# Altium integrated library BB Converter Analog to Digital.IntLib: 242 symbols (part 1 of 6)
Pins are listed as number, name and electrical type; pins without a type are passive.

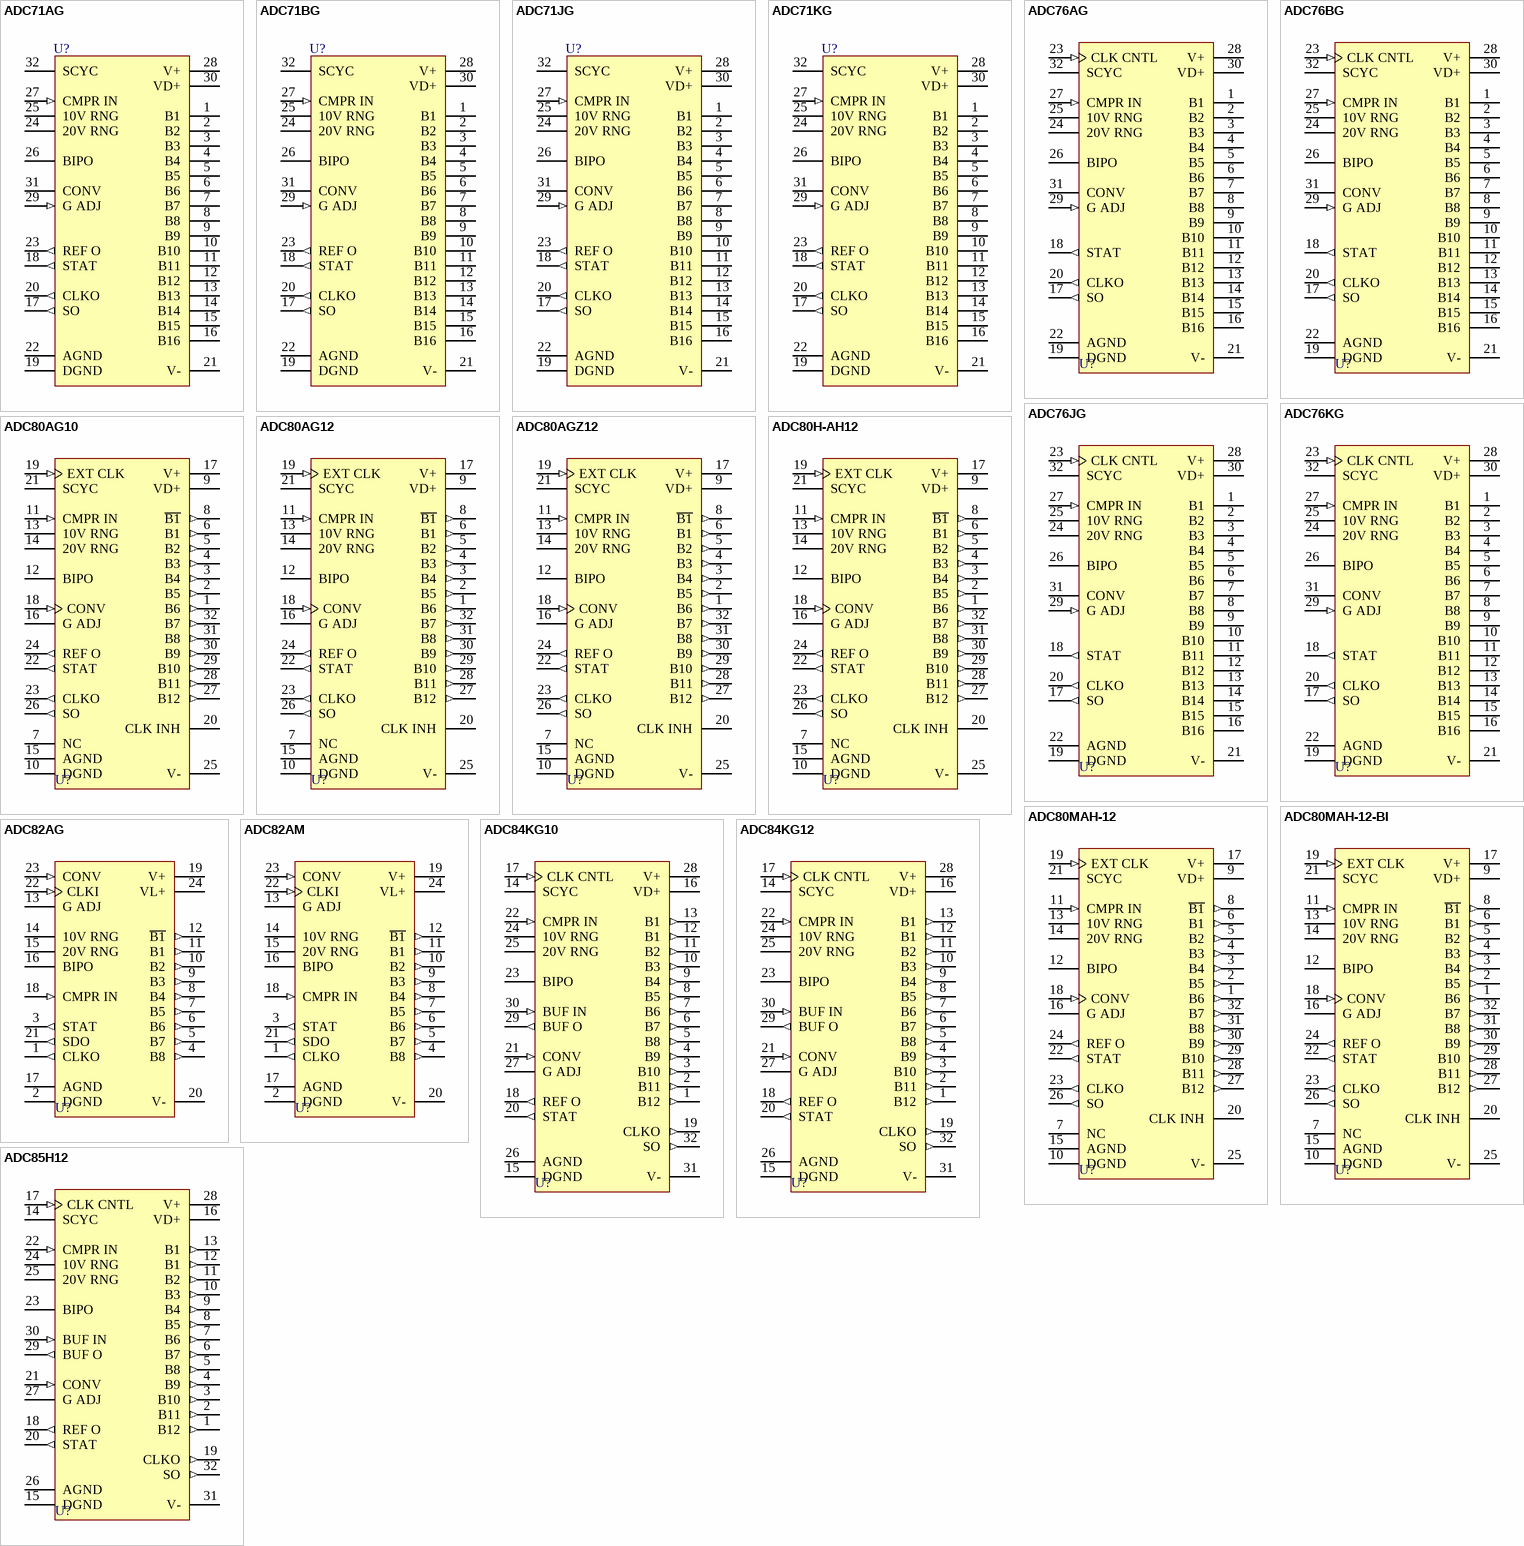
[diagram p0: symbols ADC71AG to ADC85H12]

## ADC71AG
designator U?
16-Bit Analog-to-Digital Converter; Note: Pin 22 is connected to metal lid of package; Published: 8-Jun-2000; LatestRevisionDate: 06-Jun-2005; LatestRevisionNote: Stylized 3D Model Added.; DatasheetVersion: 1996~1997; PackageVersion: 1994; PackageReference: 172-5; Publisher: Altium Limited; PackageDescription: DIP; 32 Leads; Row Spacing 22.86 mm; Pitch 2.54 mm; ComponentLink1Description: Manufacturer Link; ComponentLink1URL: http://www.ti.com/
footprint 172-5 (DIP; 32 Leads; Row Spacing 22.86 mm; Pitch 2.54 mm)
3D model 212 (DIP; 32 Leads; Row Spacing 22.86 mm; Pitch 2.54 mm)
pins: 1 B1 (hiz), 2 B2 (hiz), 3 B3 (hiz), 4 B4 (hiz), 5 B5 (hiz), 6 B6 (hiz), 7 B7 (hiz), 8 B8 (hiz), 9 B9 (hiz), 10 B10 (hiz), 11 B11 (hiz), 12 B12 (hiz), 13 B13 (hiz), 14 B14 (hiz), 15 B15 (hiz), 16 B16 (hiz), 17 SO (out), 18 STAT (out), 19 DGND (power), 20 CLKO (out), 21 V- (power), 22 AGND (power), 23 REF O (out), 24 20V RNG, 25 10V RNG, 26 BIPO, 27 CMPR IN (in), 28 V+ (power), 29 G ADJ (in), 30 VD+ (power), 31 CONV, 32 SCYC

## ADC71BG
designator U?
16-Bit Analog-to-Digital Converter; Note: Pin 22 is connected to metal lid of package; Published: 8-Jun-2000; LatestRevisionDate: 06-Jun-2005; LatestRevisionNote: Stylized 3D Model Added.; DatasheetVersion: 1996~1997; PackageVersion: 1994; PackageReference: 172-5; Publisher: Altium Limited; PackageDescription: DIP; 32 Leads; Row Spacing 22.86 mm; Pitch 2.54 mm; ComponentLink1Description: Manufacturer Link; ComponentLink1URL: http://www.ti.com/
footprint 172-5 (DIP; 32 Leads; Row Spacing 22.86 mm; Pitch 2.54 mm)
3D model 212 (DIP; 32 Leads; Row Spacing 22.86 mm; Pitch 2.54 mm)
pins: 1 B1 (hiz), 2 B2 (hiz), 3 B3 (hiz), 4 B4 (hiz), 5 B5 (hiz), 6 B6 (hiz), 7 B7 (hiz), 8 B8 (hiz), 9 B9 (hiz), 10 B10 (hiz), 11 B11 (hiz), 12 B12 (hiz), 13 B13 (hiz), 14 B14 (hiz), 15 B15 (hiz), 16 B16 (hiz), 17 SO (out), 18 STAT (out), 19 DGND (power), 20 CLKO (out), 21 V- (power), 22 AGND (power), 23 REF O (out), 24 20V RNG, 25 10V RNG, 26 BIPO, 27 CMPR IN (in), 28 V+ (power), 29 G ADJ (in), 30 VD+ (power), 31 CONV, 32 SCYC

## ADC71JG
designator U?
16-Bit Analog-to-Digital Converter; Note: Pin 22 is connected to metal lid of package; Published: 8-Jun-2000; LatestRevisionDate: 06-Jun-2005; LatestRevisionNote: Stylized 3D Model Added.; DatasheetVersion: 1996~1997; PackageVersion: 1994; PackageReference: 172-5; Publisher: Altium Limited; PackageDescription: DIP; 32 Leads; Row Spacing 22.86 mm; Pitch 2.54 mm; ComponentLink1Description: Manufacturer Link; ComponentLink1URL: http://www.ti.com/
footprint 172-5 (DIP; 32 Leads; Row Spacing 22.86 mm; Pitch 2.54 mm)
3D model 212 (DIP; 32 Leads; Row Spacing 22.86 mm; Pitch 2.54 mm)
pins: 1 B1 (hiz), 2 B2 (hiz), 3 B3 (hiz), 4 B4 (hiz), 5 B5 (hiz), 6 B6 (hiz), 7 B7 (hiz), 8 B8 (hiz), 9 B9 (hiz), 10 B10 (hiz), 11 B11 (hiz), 12 B12 (hiz), 13 B13 (hiz), 14 B14 (hiz), 15 B15 (hiz), 16 B16 (hiz), 17 SO (out), 18 STAT (out), 19 DGND (power), 20 CLKO (out), 21 V- (power), 22 AGND (power), 23 REF O (out), 24 20V RNG, 25 10V RNG, 26 BIPO, 27 CMPR IN (in), 28 V+ (power), 29 G ADJ (in), 30 VD+ (power), 31 CONV, 32 SCYC

## ADC71KG
designator U?
16-Bit Analog-to-Digital Converter; Note: Pin 22 is connected to metal lid of package; Published: 8-Jun-2000; LatestRevisionDate: 06-Jun-2005; LatestRevisionNote: Stylized 3D Model Added.; DatasheetVersion: 1996~1997; PackageVersion: 1994; PackageReference: 172-5; Publisher: Altium Limited; PackageDescription: DIP; 32 Leads; Row Spacing 22.86 mm; Pitch 2.54 mm; ComponentLink1Description: Manufacturer Link; ComponentLink1URL: http://www.ti.com/
footprint 172-5 (DIP; 32 Leads; Row Spacing 22.86 mm; Pitch 2.54 mm)
3D model 212 (DIP; 32 Leads; Row Spacing 22.86 mm; Pitch 2.54 mm)
pins: 1 B1 (hiz), 2 B2 (hiz), 3 B3 (hiz), 4 B4 (hiz), 5 B5 (hiz), 6 B6 (hiz), 7 B7 (hiz), 8 B8 (hiz), 9 B9 (hiz), 10 B10 (hiz), 11 B11 (hiz), 12 B12 (hiz), 13 B13 (hiz), 14 B14 (hiz), 15 B15 (hiz), 16 B16 (hiz), 17 SO (out), 18 STAT (out), 19 DGND (power), 20 CLKO (out), 21 V- (power), 22 AGND (power), 23 REF O (out), 24 20V RNG, 25 10V RNG, 26 BIPO, 27 CMPR IN (in), 28 V+ (power), 29 G ADJ (in), 30 VD+ (power), 31 CONV, 32 SCYC

## ADC76AG
designator U?
16-Bit Analog-to-Digital Converter; Published: 8-Jun-2000; LatestRevisionDate: 06-Jun-2005; LatestRevisionNote: Stylized 3D Model Added.; DatasheetVersion: 1996~1997; PackageVersion: 1994; PackageReference: 172-5; Publisher: Altium Limited; PackageDescription: DIP; 32 Leads; Row Spacing 22.86 mm; Pitch 2.54 mm; ComponentLink1Description: Manufacturer Link; ComponentLink1URL: http://www.ti.com/
footprint 172-5 (DIP; 32 Leads; Row Spacing 22.86 mm; Pitch 2.54 mm)
3D model 212 (DIP; 32 Leads; Row Spacing 22.86 mm; Pitch 2.54 mm)
pins: 1 B1 (hiz), 2 B2 (hiz), 3 B3 (hiz), 4 B4 (hiz), 5 B5 (hiz), 6 B6 (hiz), 7 B7 (hiz), 8 B8 (hiz), 9 B9 (hiz), 10 B10 (hiz), 11 B11 (hiz), 12 B12 (hiz), 13 B13 (hiz), 14 B14 (hiz), 15 B15 (hiz), 16 B16 (hiz), 17 SO (out), 18 STAT (out), 19 DGND (power), 20 CLKO (out), 21 V- (power), 22 AGND (power), 23 CLK CNTL (in), 24 20V RNG, 25 10V RNG, 26 BIPO, 27 CMPR IN (in), 28 V+ (power), 29 G ADJ (in), 30 VD+ (power), 31 CONV, 32 SCYC

## ADC76BG
designator U?
16-Bit Analog-to-Digital Converter; Published: 8-Jun-2000; LatestRevisionDate: 06-Jun-2005; LatestRevisionNote: Stylized 3D Model Added.; DatasheetVersion: 1996~1997; PackageVersion: 1994; PackageReference: 172-5; Publisher: Altium Limited; PackageDescription: DIP; 32 Leads; Row Spacing 22.86 mm; Pitch 2.54 mm; ComponentLink1Description: Manufacturer Link; ComponentLink1URL: http://www.ti.com/
footprint 172-5 (DIP; 32 Leads; Row Spacing 22.86 mm; Pitch 2.54 mm)
3D model 212 (DIP; 32 Leads; Row Spacing 22.86 mm; Pitch 2.54 mm)
pins: 1 B1 (hiz), 2 B2 (hiz), 3 B3 (hiz), 4 B4 (hiz), 5 B5 (hiz), 6 B6 (hiz), 7 B7 (hiz), 8 B8 (hiz), 9 B9 (hiz), 10 B10 (hiz), 11 B11 (hiz), 12 B12 (hiz), 13 B13 (hiz), 14 B14 (hiz), 15 B15 (hiz), 16 B16 (hiz), 17 SO (out), 18 STAT (out), 19 DGND (power), 20 CLKO (out), 21 V- (power), 22 AGND (power), 23 CLK CNTL (in), 24 20V RNG, 25 10V RNG, 26 BIPO, 27 CMPR IN (in), 28 V+ (power), 29 G ADJ (in), 30 VD+ (power), 31 CONV, 32 SCYC

## ADC76JG
designator U?
16-Bit Analog-to-Digital Converter; Published: 8-Jun-2000; LatestRevisionDate: 06-Jun-2005; LatestRevisionNote: Stylized 3D Model Added.; DatasheetVersion: 1996~1997; PackageVersion: 1994; PackageReference: 172-5; Publisher: Altium Limited; PackageDescription: DIP; 32 Leads; Row Spacing 22.86 mm; Pitch 2.54 mm; ComponentLink1Description: Manufacturer Link; ComponentLink1URL: http://www.ti.com/
footprint 172-5 (DIP; 32 Leads; Row Spacing 22.86 mm; Pitch 2.54 mm)
3D model 212 (DIP; 32 Leads; Row Spacing 22.86 mm; Pitch 2.54 mm)
pins: 1 B1 (hiz), 2 B2 (hiz), 3 B3 (hiz), 4 B4 (hiz), 5 B5 (hiz), 6 B6 (hiz), 7 B7 (hiz), 8 B8 (hiz), 9 B9 (hiz), 10 B10 (hiz), 11 B11 (hiz), 12 B12 (hiz), 13 B13 (hiz), 14 B14 (hiz), 15 B15 (hiz), 16 B16 (hiz), 17 SO (out), 18 STAT (out), 19 DGND (power), 20 CLKO (out), 21 V- (power), 22 AGND (power), 23 CLK CNTL (in), 24 20V RNG, 25 10V RNG, 26 BIPO, 27 CMPR IN (in), 28 V+ (power), 29 G ADJ (in), 30 VD+ (power), 31 CONV, 32 SCYC

## ADC76KG
designator U?
16-Bit Analog-to-Digital Converter; Published: 8-Jun-2000; LatestRevisionDate: 06-Jun-2005; LatestRevisionNote: Stylized 3D Model Added.; DatasheetVersion: 1996~1997; PackageVersion: 1994; PackageReference: 172-5; Publisher: Altium Limited; PackageDescription: DIP; 32 Leads; Row Spacing 22.86 mm; Pitch 2.54 mm; ComponentLink1Description: Manufacturer Link; ComponentLink1URL: http://www.ti.com/
footprint 172-5 (DIP; 32 Leads; Row Spacing 22.86 mm; Pitch 2.54 mm)
3D model 212 (DIP; 32 Leads; Row Spacing 22.86 mm; Pitch 2.54 mm)
pins: 1 B1 (hiz), 2 B2 (hiz), 3 B3 (hiz), 4 B4 (hiz), 5 B5 (hiz), 6 B6 (hiz), 7 B7 (hiz), 8 B8 (hiz), 9 B9 (hiz), 10 B10 (hiz), 11 B11 (hiz), 12 B12 (hiz), 13 B13 (hiz), 14 B14 (hiz), 15 B15 (hiz), 16 B16 (hiz), 17 SO (out), 18 STAT (out), 19 DGND (power), 20 CLKO (out), 21 V- (power), 22 AGND (power), 23 CLK CNTL (in), 24 20V RNG, 25 10V RNG, 26 BIPO, 27 CMPR IN (in), 28 V+ (power), 29 G ADJ (in), 30 VD+ (power), 31 CONV, 32 SCYC

## ADC80AG10
designator U?
General Purpose Analog-to-Digital Converter; Note: Pin 7 is No internal Connection (NC) pins.; ComponentAvailability: Obsolete; Published: 8-Jun-2000; LatestRevisionDate: 06-Jun-2005; LatestRevisionNote: Stylized 3D Model Added.; DatasheetVersion: 1989; PackageVersion: 1994; PackageReference: 172-2; Publisher: Altium Limited; PackageDescription: DIP; 32 Leads; Row Spacing 22.86 mm; Pitch 2.54 mm; ComponentLink1Description: Manufacturer Link; ComponentLink1URL: http://www.ti.com/; ComponentLink2Description: Datasheet; ComponentLink2URL: http://www-s.ti.com/sc/ds/adc0804.pdf
footprint 172-2 (DIP; 32 Leads; Row Spacing 22.86 mm; Pitch 2.54 mm)
3D model 212 (DIP; 32 Leads; Row Spacing 22.86 mm; Pitch 2.54 mm)
pins: 1 B6 (out), 2 B5 (out), 3 B4 (out), 4 B3 (out), 5 B2 (out), 6 B1 (out), 7 NC, 8 ~{B1} (out), 9 VD+ (power), 10 DGND (power), 11 CMPR IN (in), 12 BIPO, 13 10V RNG, 14 20V RNG, 15 AGND (power), 16 G ADJ, 17 V+ (power), 18 CONV (in), 19 EXT CLK (in), 20 CLK INH, 21 SCYC, 22 STAT (out), 23 CLKO (out), 24 REF O (out), 25 V- (power), 26 SO (out), 27 B12 (out), 28 B11 (out), 29 B10 (out), 30 B9 (out), 31 B8 (out), 32 B7 (out)

## ADC80AG12
designator U?
General Purpose Analog-to-Digital Converter; Note: Pin 7 is No internal Connection (NC) pins.; ComponentAvailability: Obsolete; Published: 8-Jun-2000; LatestRevisionDate: 06-Jun-2005; LatestRevisionNote: Stylized 3D Model Added.; DatasheetVersion: 1989; PackageVersion: 1994; PackageReference: 172-2; Publisher: Altium Limited; PackageDescription: DIP; 32 Leads; Row Spacing 22.86 mm; Pitch 2.54 mm; ComponentLink1Description: Manufacturer Link; ComponentLink1URL: http://www.ti.com/; ComponentLink2Description: Datasheet; ComponentLink2URL: http://www-s.ti.com/sc/ds/adc0804.pdf
footprint 172-2 (DIP; 32 Leads; Row Spacing 22.86 mm; Pitch 2.54 mm)
3D model 212 (DIP; 32 Leads; Row Spacing 22.86 mm; Pitch 2.54 mm)
pins: 1 B6 (out), 2 B5 (out), 3 B4 (out), 4 B3 (out), 5 B2 (out), 6 B1 (out), 7 NC, 8 ~{B1} (out), 9 VD+ (power), 10 DGND (power), 11 CMPR IN (in), 12 BIPO, 13 10V RNG, 14 20V RNG, 15 AGND (power), 16 G ADJ, 17 V+ (power), 18 CONV (in), 19 EXT CLK (in), 20 CLK INH, 21 SCYC, 22 STAT (out), 23 CLKO (out), 24 REF O (out), 25 V- (power), 26 SO (out), 27 B12 (out), 28 B11 (out), 29 B10 (out), 30 B9 (out), 31 B8 (out), 32 B7 (out)

## ADC80AGZ12
designator U?
General Purpose Analog-to-Digital Converter; Note: Pin 7 is No internal Connection (NC) pins.; ComponentAvailability: Obsolete; Published: 8-Jun-2000; LatestRevisionDate: 06-Jun-2005; LatestRevisionNote: Stylized 3D Model Added.; DatasheetVersion: 1989; PackageVersion: 1994; PackageReference: 172-2; Publisher: Altium Limited; PackageDescription: DIP; 32 Leads; Row Spacing 22.86 mm; Pitch 2.54 mm; ComponentLink1Description: Manufacturer Link; ComponentLink1URL: http://www.ti.com/; ComponentLink2Description: Datasheet; ComponentLink2URL: http://www-s.ti.com/sc/ds/adc0804.pdf
footprint 172-2 (DIP; 32 Leads; Row Spacing 22.86 mm; Pitch 2.54 mm)
3D model 212 (DIP; 32 Leads; Row Spacing 22.86 mm; Pitch 2.54 mm)
pins: 1 B6 (out), 2 B5 (out), 3 B4 (out), 4 B3 (out), 5 B2 (out), 6 B1 (out), 7 NC, 8 ~{B1} (out), 9 VD+ (power), 10 DGND (power), 11 CMPR IN (in), 12 BIPO, 13 10V RNG, 14 20V RNG, 15 AGND (power), 16 G ADJ, 17 V+ (power), 18 CONV (in), 19 EXT CLK (in), 20 CLK INH, 21 SCYC, 22 STAT (out), 23 CLKO (out), 24 REF O (out), 25 V- (power), 26 SO (out), 27 B12 (out), 28 B11 (out), 29 B10 (out), 30 B9 (out), 31 B8 (out), 32 B7 (out)

## ADC80H-AH12
designator U?
General Purpose Analog-to-Digital Converter; Note: Pin 7 is No internal Connection (NC) pins.; ComponentAvailability: Obsolete; Published: 8-Jun-2000; LatestRevisionDate: 06-Jun-2005; LatestRevisionNote: Stylized 3D Model Added.; DatasheetVersion: 1989; PackageVersion: 1994; PackageReference: 172-2; Publisher: Altium Limited; PackageDescription: DIP; 32 Leads; Row Spacing 22.86 mm; Pitch 2.54 mm; ComponentLink1Description: Manufacturer Link; ComponentLink1URL: http://www.ti.com/; ComponentLink2Description: Datasheet; ComponentLink2URL: http://www-s.ti.com/sc/ds/adc0804.pdf
footprint 172-2 (DIP; 32 Leads; Row Spacing 22.86 mm; Pitch 2.54 mm)
3D model 212 (DIP; 32 Leads; Row Spacing 22.86 mm; Pitch 2.54 mm)
pins: 1 B6 (out), 2 B5 (out), 3 B4 (out), 4 B3 (out), 5 B2 (out), 6 B1 (out), 7 NC, 8 ~{B1} (out), 9 VD+ (power), 10 DGND (power), 11 CMPR IN (in), 12 BIPO, 13 10V RNG, 14 20V RNG, 15 AGND (power), 16 G ADJ, 17 V+ (power), 18 CONV (in), 19 EXT CLK (in), 20 CLK INH, 21 SCYC, 22 STAT (out), 23 CLKO (out), 24 REF O (out), 25 V- (power), 26 SO (out), 27 B12 (out), 28 B11 (out), 29 B10 (out), 30 B9 (out), 31 B8 (out), 32 B7 (out)

## ADC80MAH-12
designator U?
Monolithic 12-Bit Analog-to-Digital Converter; Note: Pin 7 is No internal Connection (NC) pins.; ComponentAvailability: Obsolete; Published: 8-Jun-2000; LatestRevisionDate: 06-Jun-2005; LatestRevisionNote: Stylized 3D Model Added.; DatasheetVersion: 1989; PackageVersion: 1994; PackageReference: 212; Publisher: Altium Limited; PackageDescription: DIP; 32 Leads; Row Spacing 22.86 mm; Pitch 2.54 mm; ComponentLink1Description: Manufacturer Link; ComponentLink1URL: http://www.ti.com/; ComponentLink2Description: Datasheet; ComponentLink2URL: http://www-s.ti.com/sc/ds/adc0804.pdf
footprint 212 (DIP; 32 Leads; Row Spacing 22.86 mm; Pitch 2.54 mm)
3D model 212 (DIP; 32 Leads; Row Spacing 22.86 mm; Pitch 2.54 mm)
pins: 1 B6 (out), 2 B5 (out), 3 B4 (out), 4 B3 (out), 5 B2 (out), 6 B1 (out), 7 NC, 8 ~{B1} (out), 9 VD+ (power), 10 DGND (power), 11 CMPR IN (in), 12 BIPO, 13 10V RNG, 14 20V RNG, 15 AGND (power), 16 G ADJ, 17 V+ (power), 18 CONV (in), 19 EXT CLK (in), 20 CLK INH, 21 SCYC, 22 STAT (out), 23 CLKO (out), 24 REF O (out), 25 V- (power), 26 SO (out), 27 B12 (out), 28 B11 (out), 29 B10 (out), 30 B9 (out), 31 B8 (out), 32 B7 (out)

## ADC80MAH-12-BI
designator U?
Monolithic 12-Bit Analog-to-Digital Converter; Note: Pin 7 is No internal Connection (NC) pins.; ComponentAvailability: Obsolete; Published: 8-Jun-2000; LatestRevisionDate: 06-Jun-2005; LatestRevisionNote: Stylized 3D Model Added.; DatasheetVersion: 1989; PackageVersion: 1994; PackageReference: 212; Publisher: Altium Limited; PackageDescription: DIP; 32 Leads; Row Spacing 22.86 mm; Pitch 2.54 mm; ComponentLink1Description: Manufacturer Link; ComponentLink1URL: http://www.ti.com/; ComponentLink2Description: Datasheet; ComponentLink2URL: http://www-s.ti.com/sc/ds/adc0804.pdf
footprint 212 (DIP; 32 Leads; Row Spacing 22.86 mm; Pitch 2.54 mm)
3D model 212 (DIP; 32 Leads; Row Spacing 22.86 mm; Pitch 2.54 mm)
pins: 1 B6 (out), 2 B5 (out), 3 B4 (out), 4 B3 (out), 5 B2 (out), 6 B1 (out), 7 NC, 8 ~{B1} (out), 9 VD+ (power), 10 DGND (power), 11 CMPR IN (in), 12 BIPO, 13 10V RNG, 14 20V RNG, 15 AGND (power), 16 G ADJ, 17 V+ (power), 18 CONV (in), 19 EXT CLK (in), 20 CLK INH, 21 SCYC, 22 STAT (out), 23 CLKO (out), 24 REF O (out), 25 V- (power), 26 SO (out), 27 B12 (out), 28 B11 (out), 29 B10 (out), 30 B9 (out), 31 B8 (out), 32 B7 (out)

## ADC82AG
designator U?
IC Analog-to-Digital Converter; Published: 8-Jun-2000; LatestRevisionDate: 17-Jul-2002; LatestRevisionNote: Re-released for DXP Platform.; DatasheetVersion: Oct-1985; PackageVersion: revA; PackageReference: ZZ075; Publisher: Altium Limited; PackageDescription: DIP; 24 Round Pins; Row Space 15.24 mm; Pitch 2.54 mm; ComponentLink1Description: Manufacturer Link; ComponentLink1URL: http://www.ti.com/
footprint ZZ075 (DIP; 24 Round Pins; Row Space 15.24 mm; Pitch 2.54 mm)
pins: 1 CLKO (out), 2 DGND (power), 3 STAT (out), 4 B8 (out), 5 B7 (out), 6 B6 (out), 7 B5 (out), 8 B4 (out), 9 B3 (out), 10 B2 (out), 11 B1 (out), 12 ~{B1} (out), 13 G ADJ, 14 10V RNG, 15 20V RNG, 16 BIPO, 17 AGND (power), 18 CMPR IN (in), 19 V+ (power), 20 V- (power), 21 SDO (out), 22 CLKI (in), 23 CONV (in), 24 VL+ (power)

## ADC82AM
designator U?
IC Analog-to-Digital Converter; Published: 8-Jun-2000; LatestRevisionDate: 17-Jul-2002; LatestRevisionNote: Re-released for DXP Platform.; DatasheetVersion: Oct-1985; PackageVersion: 1994; PackageReference: ZZ113; Publisher: Altium Limited; PackageDescription: DIP; 24 Round Pins; Row Space 15.24 mm; Pitch 2.54 mm; ComponentLink1Description: Manufacturer Link; ComponentLink1URL: http://www.ti.com/
footprint ZZ113 (DIP; 24 Round Pins; Row Space 15.24 mm; Pitch 2.54 mm)
pins: 1 CLKO (out), 2 DGND (power), 3 STAT (out), 4 B8 (out), 5 B7 (out), 6 B6 (out), 7 B5 (out), 8 B4 (out), 9 B3 (out), 10 B2 (out), 11 B1 (out), 12 ~{B1} (out), 13 G ADJ, 14 10V RNG, 15 20V RNG, 16 BIPO, 17 AGND (power), 18 CMPR IN (in), 19 V+ (power), 20 V- (power), 21 SDO (out), 22 CLKI (in), 23 CONV (in), 24 VL+ (power)

## ADC84KG10
designator U?
IC Analog-to-Digital Converter; Published: 8-Jun-2000; LatestRevisionDate: 06-Jun-2005; LatestRevisionNote: Stylized 3D Model Added.; DatasheetVersion: 1989; PackageVersion: 1994; PackageReference: 172-2; Publisher: Altium Limited; PackageDescription: DIP; 32 Leads; Row Spacing 22.86 mm; Pitch 2.54 mm; ComponentLink1Description: Manufacturer Link; ComponentLink1URL: http://www.ti.com/
footprint 172-2 (DIP; 32 Leads; Row Spacing 22.86 mm; Pitch 2.54 mm)
3D model 212 (DIP; 32 Leads; Row Spacing 22.86 mm; Pitch 2.54 mm)
pins: 1 B12 (out), 2 B11 (out), 3 B10 (out), 4 B9 (out), 5 B8 (out), 6 B7 (out), 7 B6 (out), 8 B5 (out), 9 B4 (out), 10 B3 (out), 11 B2 (out), 12 B1 (out), 13 B1 (out), 14 SCYC, 15 DGND (power), 16 VD+ (power), 17 CLK CNTL (in), 18 REF O (out), 19 CLKO (out), 20 STAT (out), 21 CONV (in), 22 CMPR IN (in), 23 BIPO, 24 10V RNG, 25 20V RNG, 26 AGND (power), 27 G ADJ, 28 V+ (power), 29 BUF O (out), 30 BUF IN (in), 31 V- (power), 32 SO (out)

## ADC84KG12
designator U?
IC Analog-to-Digital Converter; Published: 8-Jun-2000; LatestRevisionDate: 06-Jun-2005; LatestRevisionNote: Stylized 3D Model Added.; DatasheetVersion: 1989; PackageVersion: 1994; PackageReference: 172-2; Publisher: Altium Limited; PackageDescription: DIP; 32 Leads; Row Spacing 22.86 mm; Pitch 2.54 mm; ComponentLink1Description: Manufacturer Link; ComponentLink1URL: http://www.ti.com/
footprint 172-2 (DIP; 32 Leads; Row Spacing 22.86 mm; Pitch 2.54 mm)
3D model 212 (DIP; 32 Leads; Row Spacing 22.86 mm; Pitch 2.54 mm)
pins: 1 B12 (out), 2 B11 (out), 3 B10 (out), 4 B9 (out), 5 B8 (out), 6 B7 (out), 7 B6 (out), 8 B5 (out), 9 B4 (out), 10 B3 (out), 11 B2 (out), 12 B1 (out), 13 B1 (out), 14 SCYC, 15 DGND (power), 16 VD+ (power), 17 CLK CNTL (in), 18 REF O (out), 19 CLKO (out), 20 STAT (out), 21 CONV (in), 22 CMPR IN (in), 23 BIPO, 24 10V RNG, 25 20V RNG, 26 AGND (power), 27 G ADJ, 28 V+ (power), 29 BUF O (out), 30 BUF IN (in), 31 V- (power), 32 SO (out)

## ADC85H12
designator U?
IC Analog-to-Digital Converter; Published: 8-Jun-2000; LatestRevisionDate: 06-Jun-2005; LatestRevisionNote: Stylized 3D Model Added.; DatasheetVersion: 1989; PackageVersion: 1994; PackageReference: 172-2; Publisher: Altium Limited; PackageDescription: DIP; 32 Leads; Row Spacing 22.86 mm; Pitch 2.54 mm; ComponentLink1Description: Manufacturer Link; ComponentLink1URL: http://www.ti.com/
footprint 172-2 (DIP; 32 Leads; Row Spacing 22.86 mm; Pitch 2.54 mm)
3D model 212 (DIP; 32 Leads; Row Spacing 22.86 mm; Pitch 2.54 mm)
pins: 1 B12 (out), 2 B11 (out), 3 B10 (out), 4 B9 (out), 5 B8 (out), 6 B7 (out), 7 B6 (out), 8 B5 (out), 9 B4 (out), 10 B3 (out), 11 B2 (out), 12 B1 (out), 13 B1 (out), 14 SCYC, 15 DGND (power), 16 VD+ (power), 17 CLK CNTL (in), 18 REF O (out), 19 CLKO (out), 20 STAT (out), 21 CONV (in), 22 CMPR IN (in), 23 BIPO, 24 10V RNG, 25 20V RNG, 26 AGND (power), 27 G ADJ, 28 V+ (power), 29 BUF O (out), 30 BUF IN (in), 31 V- (power), 32 SO (out)

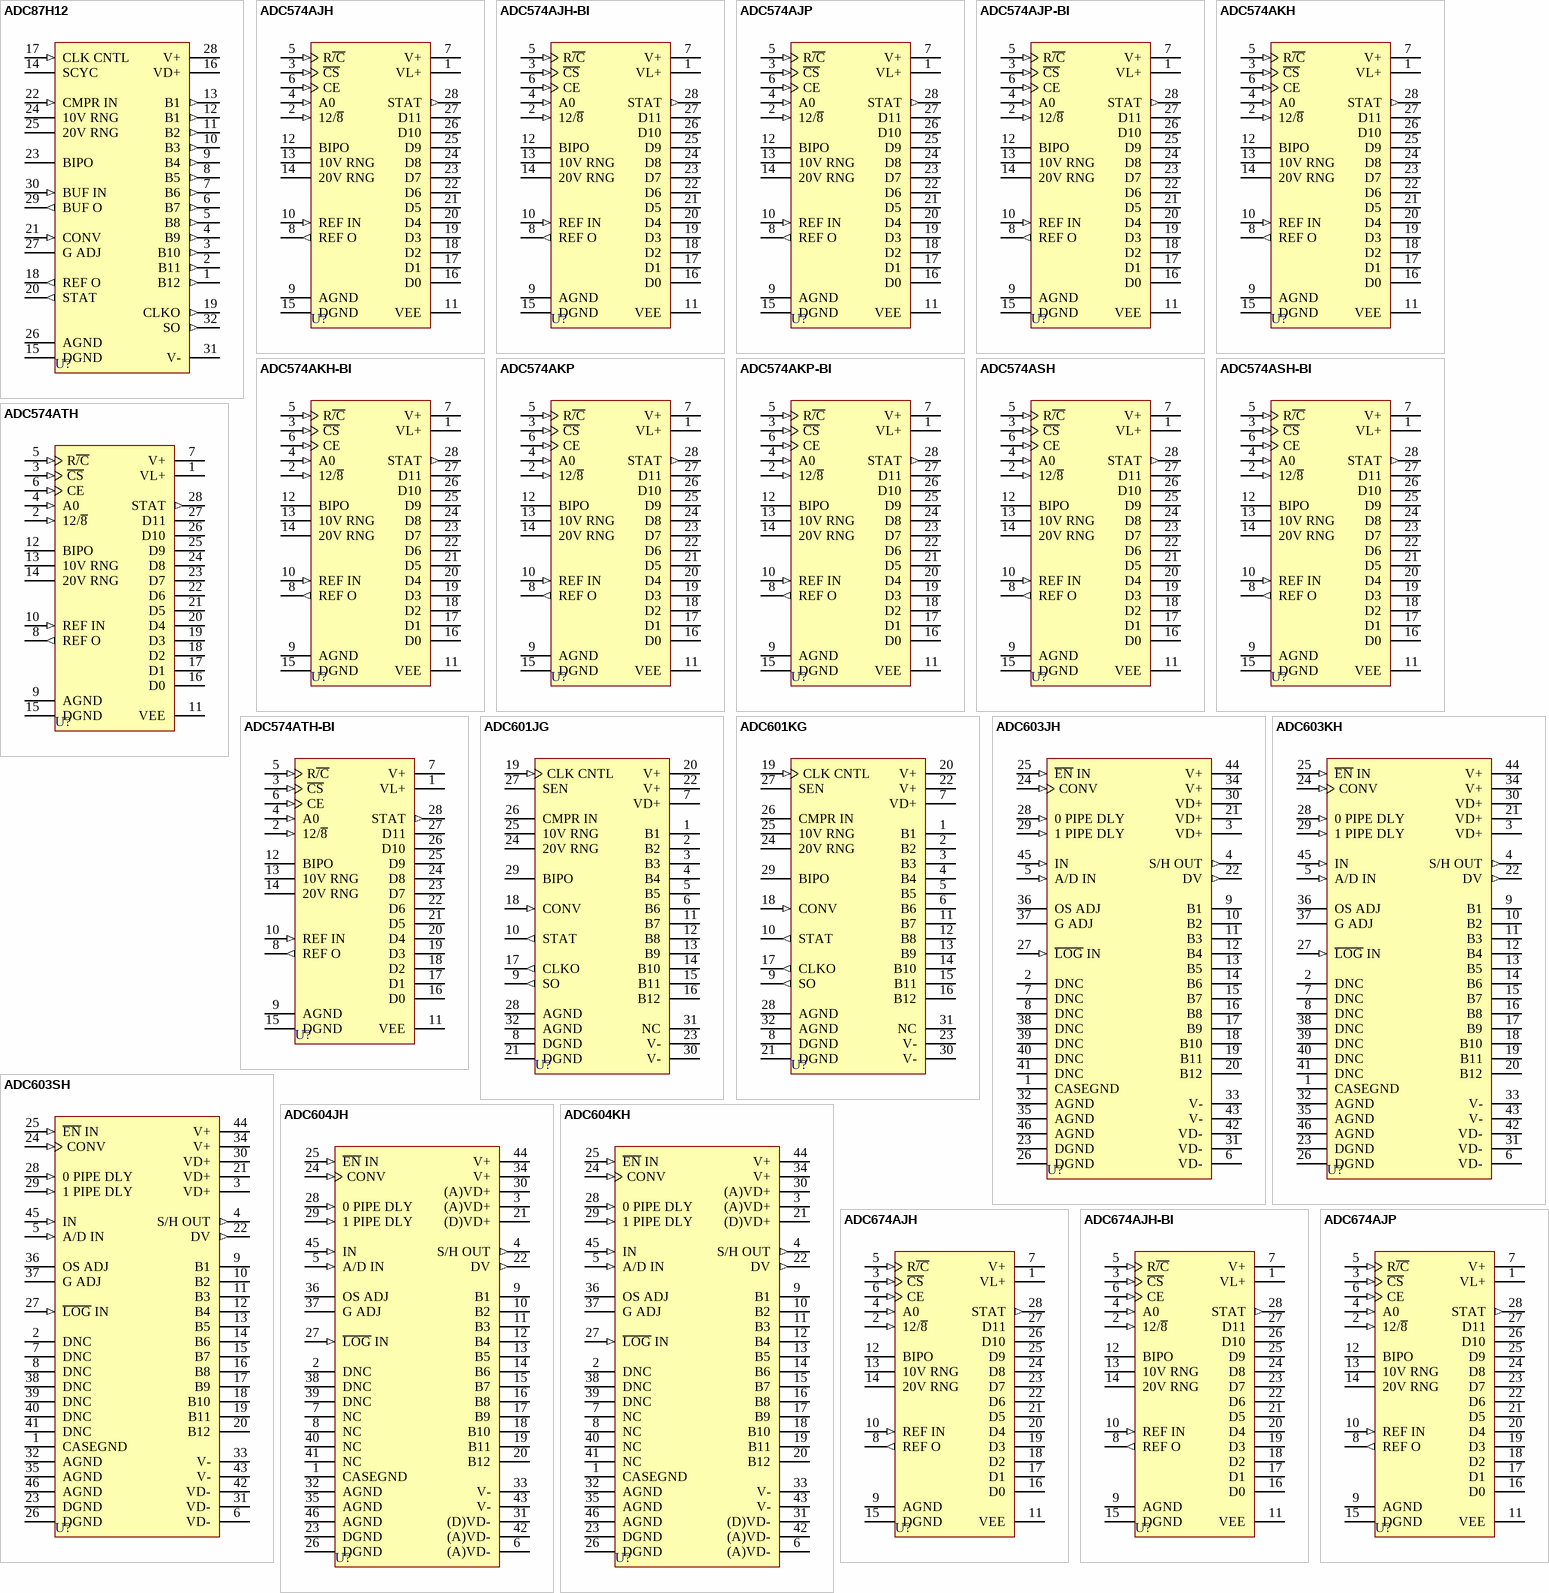
[diagram p1: symbols ADC87H12 to ADC674AJP]

## ADC87H12
designator U?
IC Analog-to-Digital Converter; Published: 8-Jun-2000; LatestRevisionDate: 06-Jun-2005; LatestRevisionNote: Stylized 3D Model Added.; DatasheetVersion: 1989; PackageVersion: 1994; PackageReference: 172-2; Publisher: Altium Limited; PackageDescription: DIP; 32 Leads; Row Spacing 22.86 mm; Pitch 2.54 mm; ComponentLink1Description: Manufacturer Link; ComponentLink1URL: http://www.ti.com/
footprint 172-2 (DIP; 32 Leads; Row Spacing 22.86 mm; Pitch 2.54 mm)
3D model 212 (DIP; 32 Leads; Row Spacing 22.86 mm; Pitch 2.54 mm)
pins: 1 B12 (out), 2 B11 (out), 3 B10 (out), 4 B9 (out), 5 B8 (out), 6 B7 (out), 7 B6 (out), 8 B5 (out), 9 B4 (out), 10 B3 (out), 11 B2 (out), 12 B1 (out), 13 B1 (out), 14 SCYC, 15 DGND (power), 16 VD+ (power), 17 CLK CNTL (in), 18 REF O (out), 19 CLKO (out), 20 STAT (out), 21 CONV (in), 22 CMPR IN (in), 23 BIPO, 24 10V RNG, 25 20V RNG, 26 AGND (power), 27 G ADJ, 28 V+ (power), 29 BUF O (out), 30 BUF IN (in), 31 V- (power), 32 SO (out)

## ADC574AJH
designator U?
Microprocessor-Compatible Analog-to-Digital Converter; Published: 8-Jun-2000; LatestRevisionDate: 06-Jun-2005; LatestRevisionNote: Stylized 3D Model Added.; DatasheetVersion: 1996~1997; PackageVersion: 1994; PackageReference: 149; Publisher: Altium Limited; PackageDescription: DIP; 28 Leads; Row Spacing 15.24 mm; Pitch 2.54 mm; ComponentLink1Description: Manufacturer Link; ComponentLink1URL: http://www.ti.com/
footprint 149 (DIP; 28 Leads; Row Spacing 15.24 mm; Pitch 2.54 mm)
3D model 149 (DIP; 28 Leads; Row Spacing 15.24 mm; Pitch 2.54 mm)
pins: 1 VL+ (power), 2 12/~{8} (in), 3 ~{CS} (in), 4 A0 (in), 5 R~{/C} (in), 6 CE (in), 7 V+ (power), 8 REF O (out), 9 AGND (power), 10 REF IN (in), 11 VEE (power), 12 BIPO, 13 10V RNG, 14 20V RNG, 15 DGND (power), 16 D0 (hiz), 17 D1 (hiz), 18 D2 (hiz), 19 D3 (hiz), 20 D4 (hiz), 21 D5 (hiz), 22 D6 (hiz), 23 D7 (hiz), 24 D8 (hiz), 25 D9 (hiz), 26 D10 (hiz), 27 D11 (hiz), 28 STAT (out)

## ADC574AJH-BI
designator U?
Microprocessor-Compatible Analog-to-Digital Converter; Published: 8-Jun-2000; LatestRevisionDate: 06-Jun-2005; LatestRevisionNote: Stylized 3D Model Added.; DatasheetVersion: 1996~1997; PackageVersion: 1994; PackageReference: 149; Publisher: Altium Limited; PackageDescription: DIP; 28 Leads; Row Spacing 15.24 mm; Pitch 2.54 mm; ComponentLink1Description: Manufacturer Link; ComponentLink1URL: http://www.ti.com/
footprint 149 (DIP; 28 Leads; Row Spacing 15.24 mm; Pitch 2.54 mm)
3D model 149 (DIP; 28 Leads; Row Spacing 15.24 mm; Pitch 2.54 mm)
pins: 1 VL+ (power), 2 12/~{8} (in), 3 ~{CS} (in), 4 A0 (in), 5 R~{/C} (in), 6 CE (in), 7 V+ (power), 8 REF O (out), 9 AGND (power), 10 REF IN (in), 11 VEE (power), 12 BIPO, 13 10V RNG, 14 20V RNG, 15 DGND (power), 16 D0 (hiz), 17 D1 (hiz), 18 D2 (hiz), 19 D3 (hiz), 20 D4 (hiz), 21 D5 (hiz), 22 D6 (hiz), 23 D7 (hiz), 24 D8 (hiz), 25 D9 (hiz), 26 D10 (hiz), 27 D11 (hiz), 28 STAT (out)

## ADC574AJP
designator U?
Microprocessor-Compatible Analog-to-Digital Converter; Published: 8-Jun-2000; LatestRevisionDate: 06-Jun-2005; LatestRevisionNote: Stylized 3D Model Added.; DatasheetVersion: 1996~1997; PackageVersion: revJ; PackageReference: 215J; Publisher: Altium Limited; PackageDescription: DIP; 28 Leads; Row Spacing 15.24 mm; Pitch 2.54 mm; Code_JEDEC: MS-011-AB; ComponentLink1Description: Manufacturer Link; ComponentLink1URL: http://www.ti.com/
footprint 215J (DIP; 28 Leads; Row Spacing 15.24 mm; Pitch 2.54 mm)
3D model 215J (DIP; 28 Leads; Row Spacing 15.24 mm; Pitch 2.54 mm)
pins: 1 VL+ (power), 2 12/~{8} (in), 3 ~{CS} (in), 4 A0 (in), 5 R~{/C} (in), 6 CE (in), 7 V+ (power), 8 REF O (out), 9 AGND (power), 10 REF IN (in), 11 VEE (power), 12 BIPO, 13 10V RNG, 14 20V RNG, 15 DGND (power), 16 D0 (hiz), 17 D1 (hiz), 18 D2 (hiz), 19 D3 (hiz), 20 D4 (hiz), 21 D5 (hiz), 22 D6 (hiz), 23 D7 (hiz), 24 D8 (hiz), 25 D9 (hiz), 26 D10 (hiz), 27 D11 (hiz), 28 STAT (out)

## ADC574AJP-BI
designator U?
Microprocessor-Compatible Analog-to-Digital Converter; Published: 8-Jun-2000; LatestRevisionDate: 06-Jun-2005; LatestRevisionNote: Stylized 3D Model Added.; DatasheetVersion: 1996~1997; PackageVersion: revJ; PackageReference: 215J; Publisher: Altium Limited; PackageDescription: DIP; 28 Leads; Row Spacing 15.24 mm; Pitch 2.54 mm; Code_JEDEC: MS-011-AB; ComponentLink1Description: Manufacturer Link; ComponentLink1URL: http://www.ti.com/
footprint 215J (DIP; 28 Leads; Row Spacing 15.24 mm; Pitch 2.54 mm)
3D model 215J (DIP; 28 Leads; Row Spacing 15.24 mm; Pitch 2.54 mm)
pins: 1 VL+ (power), 2 12/~{8} (in), 3 ~{CS} (in), 4 A0 (in), 5 R~{/C} (in), 6 CE (in), 7 V+ (power), 8 REF O (out), 9 AGND (power), 10 REF IN (in), 11 VEE (power), 12 BIPO, 13 10V RNG, 14 20V RNG, 15 DGND (power), 16 D0 (hiz), 17 D1 (hiz), 18 D2 (hiz), 19 D3 (hiz), 20 D4 (hiz), 21 D5 (hiz), 22 D6 (hiz), 23 D7 (hiz), 24 D8 (hiz), 25 D9 (hiz), 26 D10 (hiz), 27 D11 (hiz), 28 STAT (out)

## ADC574AKH
designator U?
Microprocessor-Compatible Analog-to-Digital Converter; Published: 8-Jun-2000; LatestRevisionDate: 06-Jun-2005; LatestRevisionNote: Stylized 3D Model Added.; DatasheetVersion: 1996~1997; PackageVersion: 1994; PackageReference: 149; Publisher: Altium Limited; PackageDescription: DIP; 28 Leads; Row Spacing 15.24 mm; Pitch 2.54 mm; ComponentLink1Description: Manufacturer Link; ComponentLink1URL: http://www.ti.com/
footprint 149 (DIP; 28 Leads; Row Spacing 15.24 mm; Pitch 2.54 mm)
3D model 149 (DIP; 28 Leads; Row Spacing 15.24 mm; Pitch 2.54 mm)
pins: 1 VL+ (power), 2 12/~{8} (in), 3 ~{CS} (in), 4 A0 (in), 5 R~{/C} (in), 6 CE (in), 7 V+ (power), 8 REF O (out), 9 AGND (power), 10 REF IN (in), 11 VEE (power), 12 BIPO, 13 10V RNG, 14 20V RNG, 15 DGND (power), 16 D0 (hiz), 17 D1 (hiz), 18 D2 (hiz), 19 D3 (hiz), 20 D4 (hiz), 21 D5 (hiz), 22 D6 (hiz), 23 D7 (hiz), 24 D8 (hiz), 25 D9 (hiz), 26 D10 (hiz), 27 D11 (hiz), 28 STAT (out)

## ADC574AKH-BI
designator U?
Microprocessor-Compatible Analog-to-Digital Converter; Published: 8-Jun-2000; LatestRevisionDate: 06-Jun-2005; LatestRevisionNote: Stylized 3D Model Added.; DatasheetVersion: 1996~1997; PackageVersion: 1994; PackageReference: 149; Publisher: Altium Limited; PackageDescription: DIP; 28 Leads; Row Spacing 15.24 mm; Pitch 2.54 mm; ComponentLink1Description: Manufacturer Link; ComponentLink1URL: http://www.ti.com/
footprint 149 (DIP; 28 Leads; Row Spacing 15.24 mm; Pitch 2.54 mm)
3D model 149 (DIP; 28 Leads; Row Spacing 15.24 mm; Pitch 2.54 mm)
pins: 1 VL+ (power), 2 12/~{8} (in), 3 ~{CS} (in), 4 A0 (in), 5 R~{/C} (in), 6 CE (in), 7 V+ (power), 8 REF O (out), 9 AGND (power), 10 REF IN (in), 11 VEE (power), 12 BIPO, 13 10V RNG, 14 20V RNG, 15 DGND (power), 16 D0 (hiz), 17 D1 (hiz), 18 D2 (hiz), 19 D3 (hiz), 20 D4 (hiz), 21 D5 (hiz), 22 D6 (hiz), 23 D7 (hiz), 24 D8 (hiz), 25 D9 (hiz), 26 D10 (hiz), 27 D11 (hiz), 28 STAT (out)

## ADC574AKP
designator U?
Microprocessor-Compatible Analog-to-Digital Converter; Published: 8-Jun-2000; LatestRevisionDate: 06-Jun-2005; LatestRevisionNote: Stylized 3D Model Added.; DatasheetVersion: 1996~1997; PackageVersion: revJ; PackageReference: 215J; Publisher: Altium Limited; PackageDescription: DIP; 28 Leads; Row Spacing 15.24 mm; Pitch 2.54 mm; Code_JEDEC: MS-011-AB; ComponentLink1Description: Manufacturer Link; ComponentLink1URL: http://www.ti.com/
footprint 215J (DIP; 28 Leads; Row Spacing 15.24 mm; Pitch 2.54 mm)
3D model 215J (DIP; 28 Leads; Row Spacing 15.24 mm; Pitch 2.54 mm)
pins: 1 VL+ (power), 2 12/~{8} (in), 3 ~{CS} (in), 4 A0 (in), 5 R~{/C} (in), 6 CE (in), 7 V+ (power), 8 REF O (out), 9 AGND (power), 10 REF IN (in), 11 VEE (power), 12 BIPO, 13 10V RNG, 14 20V RNG, 15 DGND (power), 16 D0 (hiz), 17 D1 (hiz), 18 D2 (hiz), 19 D3 (hiz), 20 D4 (hiz), 21 D5 (hiz), 22 D6 (hiz), 23 D7 (hiz), 24 D8 (hiz), 25 D9 (hiz), 26 D10 (hiz), 27 D11 (hiz), 28 STAT (out)

## ADC574AKP-BI
designator U?
Microprocessor-Compatible Analog-to-Digital Converter; Published: 8-Jun-2000; LatestRevisionDate: 06-Jun-2005; LatestRevisionNote: Stylized 3D Model Added.; DatasheetVersion: 1996~1997; PackageVersion: revJ; PackageReference: 215J; Publisher: Altium Limited; PackageDescription: DIP; 28 Leads; Row Spacing 15.24 mm; Pitch 2.54 mm; Code_JEDEC: MS-011-AB; ComponentLink1Description: Manufacturer Link; ComponentLink1URL: http://www.ti.com/
footprint 215J (DIP; 28 Leads; Row Spacing 15.24 mm; Pitch 2.54 mm)
3D model 215J (DIP; 28 Leads; Row Spacing 15.24 mm; Pitch 2.54 mm)
pins: 1 VL+ (power), 2 12/~{8} (in), 3 ~{CS} (in), 4 A0 (in), 5 R~{/C} (in), 6 CE (in), 7 V+ (power), 8 REF O (out), 9 AGND (power), 10 REF IN (in), 11 VEE (power), 12 BIPO, 13 10V RNG, 14 20V RNG, 15 DGND (power), 16 D0 (hiz), 17 D1 (hiz), 18 D2 (hiz), 19 D3 (hiz), 20 D4 (hiz), 21 D5 (hiz), 22 D6 (hiz), 23 D7 (hiz), 24 D8 (hiz), 25 D9 (hiz), 26 D10 (hiz), 27 D11 (hiz), 28 STAT (out)

## ADC574ASH
designator U?
Microprocessor-Compatible Analog-to-Digital Converter; Published: 8-Jun-2000; LatestRevisionDate: 06-Jun-2005; LatestRevisionNote: Stylized 3D Model Added.; DatasheetVersion: 1996~1997; PackageVersion: 1994; PackageReference: 149; Publisher: Altium Limited; PackageDescription: DIP; 28 Leads; Row Spacing 15.24 mm; Pitch 2.54 mm; ComponentLink1Description: Manufacturer Link; ComponentLink1URL: http://www.ti.com/
footprint 149 (DIP; 28 Leads; Row Spacing 15.24 mm; Pitch 2.54 mm)
3D model 149 (DIP; 28 Leads; Row Spacing 15.24 mm; Pitch 2.54 mm)
pins: 1 VL+ (power), 2 12/~{8} (in), 3 ~{CS} (in), 4 A0 (in), 5 R~{/C} (in), 6 CE (in), 7 V+ (power), 8 REF O (out), 9 AGND (power), 10 REF IN (in), 11 VEE (power), 12 BIPO, 13 10V RNG, 14 20V RNG, 15 DGND (power), 16 D0 (hiz), 17 D1 (hiz), 18 D2 (hiz), 19 D3 (hiz), 20 D4 (hiz), 21 D5 (hiz), 22 D6 (hiz), 23 D7 (hiz), 24 D8 (hiz), 25 D9 (hiz), 26 D10 (hiz), 27 D11 (hiz), 28 STAT (out)

## ADC574ASH-BI
designator U?
Microprocessor-Compatible Analog-to-Digital Converter; Published: 8-Jun-2000; LatestRevisionDate: 06-Jun-2005; LatestRevisionNote: Stylized 3D Model Added.; DatasheetVersion: 1996~1997; PackageVersion: 1994; PackageReference: 149; Publisher: Altium Limited; PackageDescription: DIP; 28 Leads; Row Spacing 15.24 mm; Pitch 2.54 mm; ComponentLink1Description: Manufacturer Link; ComponentLink1URL: http://www.ti.com/
footprint 149 (DIP; 28 Leads; Row Spacing 15.24 mm; Pitch 2.54 mm)
3D model 149 (DIP; 28 Leads; Row Spacing 15.24 mm; Pitch 2.54 mm)
pins: 1 VL+ (power), 2 12/~{8} (in), 3 ~{CS} (in), 4 A0 (in), 5 R~{/C} (in), 6 CE (in), 7 V+ (power), 8 REF O (out), 9 AGND (power), 10 REF IN (in), 11 VEE (power), 12 BIPO, 13 10V RNG, 14 20V RNG, 15 DGND (power), 16 D0 (hiz), 17 D1 (hiz), 18 D2 (hiz), 19 D3 (hiz), 20 D4 (hiz), 21 D5 (hiz), 22 D6 (hiz), 23 D7 (hiz), 24 D8 (hiz), 25 D9 (hiz), 26 D10 (hiz), 27 D11 (hiz), 28 STAT (out)

## ADC574ATH
designator U?
Microprocessor-Compatible Analog-to-Digital Converter; Published: 8-Jun-2000; LatestRevisionDate: 06-Jun-2005; LatestRevisionNote: Stylized 3D Model Added.; DatasheetVersion: 1996~1997; PackageVersion: 1994; PackageReference: 149; Publisher: Altium Limited; PackageDescription: DIP; 28 Leads; Row Spacing 15.24 mm; Pitch 2.54 mm; ComponentLink1Description: Manufacturer Link; ComponentLink1URL: http://www.ti.com/
footprint 149 (DIP; 28 Leads; Row Spacing 15.24 mm; Pitch 2.54 mm)
3D model 149 (DIP; 28 Leads; Row Spacing 15.24 mm; Pitch 2.54 mm)
pins: 1 VL+ (power), 2 12/~{8} (in), 3 ~{CS} (in), 4 A0 (in), 5 R~{/C} (in), 6 CE (in), 7 V+ (power), 8 REF O (out), 9 AGND (power), 10 REF IN (in), 11 VEE (power), 12 BIPO, 13 10V RNG, 14 20V RNG, 15 DGND (power), 16 D0 (hiz), 17 D1 (hiz), 18 D2 (hiz), 19 D3 (hiz), 20 D4 (hiz), 21 D5 (hiz), 22 D6 (hiz), 23 D7 (hiz), 24 D8 (hiz), 25 D9 (hiz), 26 D10 (hiz), 27 D11 (hiz), 28 STAT (out)

## ADC574ATH-BI
designator U?
Microprocessor-Compatible Analog-to-Digital Converter; Published: 8-Jun-2000; LatestRevisionDate: 06-Jun-2005; LatestRevisionNote: Stylized 3D Model Added.; DatasheetVersion: 1996~1997; PackageVersion: 1994; PackageReference: 149; Publisher: Altium Limited; PackageDescription: DIP; 28 Leads; Row Spacing 15.24 mm; Pitch 2.54 mm; ComponentLink1Description: Manufacturer Link; ComponentLink1URL: http://www.ti.com/
footprint 149 (DIP; 28 Leads; Row Spacing 15.24 mm; Pitch 2.54 mm)
3D model 149 (DIP; 28 Leads; Row Spacing 15.24 mm; Pitch 2.54 mm)
pins: 1 VL+ (power), 2 12/~{8} (in), 3 ~{CS} (in), 4 A0 (in), 5 R~{/C} (in), 6 CE (in), 7 V+ (power), 8 REF O (out), 9 AGND (power), 10 REF IN (in), 11 VEE (power), 12 BIPO, 13 10V RNG, 14 20V RNG, 15 DGND (power), 16 D0 (hiz), 17 D1 (hiz), 18 D2 (hiz), 19 D3 (hiz), 20 D4 (hiz), 21 D5 (hiz), 22 D6 (hiz), 23 D7 (hiz), 24 D8 (hiz), 25 D9 (hiz), 26 D10 (hiz), 27 D11 (hiz), 28 STAT (out)

## ADC601JG
designator U?
12-Bit 900ns Analog-to-Digital Converter; Note: Pin 31 is No Connect (NC) pin.; Published: 8-Jun-2000; LatestRevisionDate: 17-Jul-2002; LatestRevisionNote: Re-released for DXP Platform.; DatasheetVersion: 1989; PackageVersion: 1994; PackageReference: ZZ153; Publisher: Altium Limited; PackageDescription: DIP; 32 Round Pins; Row Space 22.86 mm; Pitch 2.54 mm; ComponentLink1Description: Manufacturer Link; ComponentLink1URL: http://www.ti.com/
footprint ZZ153 (DIP; 32 Round Pins; Row Space 22.86 mm; Pitch 2.54 mm)
pins: 1 B1 (hiz), 2 B2 (hiz), 3 B3 (hiz), 4 B4 (hiz), 5 B5 (hiz), 6 B6 (hiz), 7 VD+ (power), 8 DGND (power), 9 SO (out), 10 STAT (out), 11 B7 (hiz), 12 B8 (hiz), 13 B9 (hiz), 14 B10 (hiz), 15 B11 (hiz), 16 B12 (hiz), 17 CLKO (out), 18 CONV (in), 19 CLK CNTL (in), 20 V+ (power), 21 DGND (power), 22 V+ (power), 23 V- (power), 24 20V RNG, 25 10V RNG, 26 CMPR IN, 27 SEN, 28 AGND (power), 29 BIPO, 30 V- (power), 31 NC, 32 AGND (power)

## ADC601KG
designator U?
12-Bit 900ns Analog-to-Digital Converter; Note: Pin 31 is No Connect (NC) pin.; Published: 8-Jun-2000; LatestRevisionDate: 17-Jul-2002; LatestRevisionNote: Re-released for DXP Platform.; DatasheetVersion: 1989; PackageVersion: 1994; PackageReference: ZZ153; Publisher: Altium Limited; PackageDescription: DIP; 32 Round Pins; Row Space 22.86 mm; Pitch 2.54 mm; ComponentLink1Description: Manufacturer Link; ComponentLink1URL: http://www.ti.com/
footprint ZZ153 (DIP; 32 Round Pins; Row Space 22.86 mm; Pitch 2.54 mm)
pins: 1 B1 (hiz), 2 B2 (hiz), 3 B3 (hiz), 4 B4 (hiz), 5 B5 (hiz), 6 B6 (hiz), 7 VD+ (power), 8 DGND (power), 9 SO (out), 10 STAT (out), 11 B7 (hiz), 12 B8 (hiz), 13 B9 (hiz), 14 B10 (hiz), 15 B11 (hiz), 16 B12 (hiz), 17 CLKO (out), 18 CONV (in), 19 CLK CNTL (in), 20 V+ (power), 21 DGND (power), 22 V+ (power), 23 V- (power), 24 20V RNG, 25 10V RNG, 26 CMPR IN, 27 SEN, 28 AGND (power), 29 BIPO, 30 V- (power), 31 NC, 32 AGND (power)

## ADC603JH
designator U?
12-Bit 10MHz Sampling Analog-to-Digital Converter; Note: Do Not Connect (DNC) pins 2, 7, 8, 38, 39, 40 and 41.; Published: 8-Jun-2000; LatestRevisionDate: 17-Jul-2002; LatestRevisionNote: Re-released for DXP Platform.; DatasheetVersion: 1989; PackageVersion: revB; PackageReference: ZZ234; Publisher: Altium Limited; PackageDescription: DIP; 46 Round Pins; Row Space 33.02 mm; Pitch 2.54 mm; ComponentLink1Description: Manufacturer Link; ComponentLink1URL: http://www.ti.com/
footprint ZZ234 (DIP; 46 Round Pins; Row Space 33.02 mm; Pitch 2.54 mm)
pins: 1 CASEGND (power), 2 DNC, 3 VD+ (power), 4 S/H OUT (out), 5 A/D IN (in), 6 VD- (power), 7 DNC, 8 DNC, 9 B1 (hiz), 10 B2 (hiz), 11 B3 (hiz), 12 B4 (hiz), 13 B5 (hiz), 14 B6 (hiz), 15 B7 (hiz), 16 B8 (hiz), 17 B9 (hiz), 18 B10 (hiz), 19 B11 (hiz), 20 B12 (hiz), 21 VD+ (power), 22 DV (out), 23 DGND (power), 24 CONV (in), 25 ~{EN} IN (in), 26 DGND (power), 27 ~{LOG} IN (in), 28 0 PIPE DLY (in), 29 1 PIPE DLY (in), 30 VD+ (power), 31 VD- (power), 32 AGND (power), 33 V- (power), 34 V+ (power), 35 AGND (power), 36 OS ADJ, 37 G ADJ, 38 DNC, 39 DNC, 40 DNC, 41 DNC, 42 VD- (power), 43 V- (power), 44 V+ (power), 45 IN (in), 46 AGND (power)

## ADC603KH
designator U?
12-Bit 10MHz Sampling Analog-to-Digital Converter; Note: Do Not Connect (DNC) pins 2, 7, 8, 38, 39, 40 and 41.; Published: 8-Jun-2000; LatestRevisionDate: 17-Jul-2002; LatestRevisionNote: Re-released for DXP Platform.; DatasheetVersion: 1989; PackageVersion: revB; PackageReference: ZZ234; Publisher: Altium Limited; PackageDescription: DIP; 46 Round Pins; Row Space 33.02 mm; Pitch 2.54 mm; ComponentLink1Description: Manufacturer Link; ComponentLink1URL: http://www.ti.com/
footprint ZZ234 (DIP; 46 Round Pins; Row Space 33.02 mm; Pitch 2.54 mm)
pins: 1 CASEGND (power), 2 DNC, 3 VD+ (power), 4 S/H OUT (out), 5 A/D IN (in), 6 VD- (power), 7 DNC, 8 DNC, 9 B1 (hiz), 10 B2 (hiz), 11 B3 (hiz), 12 B4 (hiz), 13 B5 (hiz), 14 B6 (hiz), 15 B7 (hiz), 16 B8 (hiz), 17 B9 (hiz), 18 B10 (hiz), 19 B11 (hiz), 20 B12 (hiz), 21 VD+ (power), 22 DV (out), 23 DGND (power), 24 CONV (in), 25 ~{EN} IN (in), 26 DGND (power), 27 ~{LOG} IN (in), 28 0 PIPE DLY (in), 29 1 PIPE DLY (in), 30 VD+ (power), 31 VD- (power), 32 AGND (power), 33 V- (power), 34 V+ (power), 35 AGND (power), 36 OS ADJ, 37 G ADJ, 38 DNC, 39 DNC, 40 DNC, 41 DNC, 42 VD- (power), 43 V- (power), 44 V+ (power), 45 IN (in), 46 AGND (power)

## ADC603SH
designator U?
12-Bit 10MHz Sampling Analog-to-Digital Converter; Note: Do Not Connect (DNC) pins 2, 7, 8, 38, 39, 40 and 41.; Published: 8-Jun-2000; LatestRevisionDate: 17-Jul-2002; LatestRevisionNote: Re-released for DXP Platform.; DatasheetVersion: 1989; PackageVersion: revB; PackageReference: ZZ234; Publisher: Altium Limited; PackageDescription: DIP; 46 Round Pins; Row Space 33.02 mm; Pitch 2.54 mm; ComponentLink1Description: Manufacturer Link; ComponentLink1URL: http://www.ti.com/
footprint ZZ234 (DIP; 46 Round Pins; Row Space 33.02 mm; Pitch 2.54 mm)
pins: 1 CASEGND (power), 2 DNC, 3 VD+ (power), 4 S/H OUT (out), 5 A/D IN (in), 6 VD- (power), 7 DNC, 8 DNC, 9 B1 (hiz), 10 B2 (hiz), 11 B3 (hiz), 12 B4 (hiz), 13 B5 (hiz), 14 B6 (hiz), 15 B7 (hiz), 16 B8 (hiz), 17 B9 (hiz), 18 B10 (hiz), 19 B11 (hiz), 20 B12 (hiz), 21 VD+ (power), 22 DV (out), 23 DGND (power), 24 CONV (in), 25 ~{EN} IN (in), 26 DGND (power), 27 ~{LOG} IN (in), 28 0 PIPE DLY (in), 29 1 PIPE DLY (in), 30 VD+ (power), 31 VD- (power), 32 AGND (power), 33 V- (power), 34 V+ (power), 35 AGND (power), 36 OS ADJ, 37 G ADJ, 38 DNC, 39 DNC, 40 DNC, 41 DNC, 42 VD- (power), 43 V- (power), 44 V+ (power), 45 IN (in), 46 AGND (power)

## ADC604JH
designator U?
12-Bit 5MHz Sampling Analog-to-Digital Converter; Note: Do Not Connect (DNC) pins 2, 38 and 39. Pins 7, 8, 40 and 41 are NC.; Published: 8-Jun-2000; LatestRevisionDate: 17-Jul-2002; LatestRevisionNote: Re-released for DXP Platform.; DatasheetVersion: Mar-1990; PackageVersion: revB; PackageReference: ZZ234; Publisher: Altium Limited; PackageDescription: DIP; 46 Round Pins; Row Space 33.02 mm; Pitch 2.54 mm; ComponentLink1Description: Manufacturer Link; ComponentLink1URL: http://www.ti.com/
footprint ZZ234 (DIP; 46 Round Pins; Row Space 33.02 mm; Pitch 2.54 mm)
pins: 1 CASEGND (power), 2 DNC, 3 (A)VD+ (power), 4 S/H OUT (out), 5 A/D IN (in), 6 (A)VD- (power), 7 NC, 8 NC, 9 B1 (hiz), 10 B2 (hiz), 11 B3 (hiz), 12 B4 (hiz), 13 B5 (hiz), 14 B6 (hiz), 15 B7 (hiz), 16 B8 (hiz), 17 B9 (hiz), 18 B10 (hiz), 19 B11 (hiz), 20 B12 (hiz), 21 (D)VD+ (power), 22 DV (out), 23 DGND (power), 24 CONV (in), 25 ~{EN} IN (in), 26 DGND (power), 27 ~{LOG} IN (in), 28 0 PIPE DLY (in), 29 1 PIPE DLY (in), 30 (A)VD+ (power), 31 (D)VD- (power), 32 AGND (power), 33 V- (power), 34 V+ (power), 35 AGND (power), 36 OS ADJ, 37 G ADJ, 38 DNC, 39 DNC, 40 NC, 41 NC, 42 (A)VD- (power), 43 V- (power), 44 V+ (power), 45 IN (in), 46 AGND (power)

## ADC604KH
designator U?
12-Bit 5MHz Sampling Analog-to-Digital Converter; Note: Do Not Connect (DNC) pins 2, 38 and 39. Pins 7, 8, 40 and 41 are NC.; Published: 8-Jun-2000; LatestRevisionDate: 17-Jul-2002; LatestRevisionNote: Re-released for DXP Platform.; DatasheetVersion: Mar-1990; PackageVersion: revB; PackageReference: ZZ234; Publisher: Altium Limited; PackageDescription: DIP; 46 Round Pins; Row Space 33.02 mm; Pitch 2.54 mm; ComponentLink1Description: Manufacturer Link; ComponentLink1URL: http://www.ti.com/
footprint ZZ234 (DIP; 46 Round Pins; Row Space 33.02 mm; Pitch 2.54 mm)
pins: 1 CASEGND (power), 2 DNC, 3 (A)VD+ (power), 4 S/H OUT (out), 5 A/D IN (in), 6 (A)VD- (power), 7 NC, 8 NC, 9 B1 (hiz), 10 B2 (hiz), 11 B3 (hiz), 12 B4 (hiz), 13 B5 (hiz), 14 B6 (hiz), 15 B7 (hiz), 16 B8 (hiz), 17 B9 (hiz), 18 B10 (hiz), 19 B11 (hiz), 20 B12 (hiz), 21 (D)VD+ (power), 22 DV (out), 23 DGND (power), 24 CONV (in), 25 ~{EN} IN (in), 26 DGND (power), 27 ~{LOG} IN (in), 28 0 PIPE DLY (in), 29 1 PIPE DLY (in), 30 (A)VD+ (power), 31 (D)VD- (power), 32 AGND (power), 33 V- (power), 34 V+ (power), 35 AGND (power), 36 OS ADJ, 37 G ADJ, 38 DNC, 39 DNC, 40 NC, 41 NC, 42 (A)VD- (power), 43 V- (power), 44 V+ (power), 45 IN (in), 46 AGND (power)

## ADC674AJH
designator U?
Microprocessor-Compatible Analog-to-Digital Converter; Published: 8-Jun-2000; LatestRevisionDate: 06-Jun-2005; LatestRevisionNote: Stylized 3D Model Added.; DatasheetVersion: 1996~1997; PackageVersion: 1994; PackageReference: 149; Publisher: Altium Limited; PackageDescription: DIP; 28 Leads; Row Spacing 15.24 mm; Pitch 2.54 mm; ComponentLink1Description: Manufacturer Link; ComponentLink1URL: http://www.ti.com/
footprint 149 (DIP; 28 Leads; Row Spacing 15.24 mm; Pitch 2.54 mm)
3D model 149 (DIP; 28 Leads; Row Spacing 15.24 mm; Pitch 2.54 mm)
pins: 1 VL+ (power), 2 12/~{8} (in), 3 ~{CS} (in), 4 A0 (in), 5 R~{/C} (in), 6 CE (in), 7 V+ (power), 8 REF O (out), 9 AGND (power), 10 REF IN (in), 11 VEE (power), 12 BIPO, 13 10V RNG, 14 20V RNG, 15 DGND (power), 16 D0 (hiz), 17 D1 (hiz), 18 D2 (hiz), 19 D3 (hiz), 20 D4 (hiz), 21 D5 (hiz), 22 D6 (hiz), 23 D7 (hiz), 24 D8 (hiz), 25 D9 (hiz), 26 D10 (hiz), 27 D11 (hiz), 28 STAT (out)

## ADC674AJH-BI
designator U?
Microprocessor-Compatible Analog-to-Digital Converter; Published: 8-Jun-2000; LatestRevisionDate: 06-Jun-2005; LatestRevisionNote: Stylized 3D Model Added.; DatasheetVersion: 1996~1997; PackageVersion: 1994; PackageReference: 149; Publisher: Altium Limited; PackageDescription: DIP; 28 Leads; Row Spacing 15.24 mm; Pitch 2.54 mm; ComponentLink1Description: Manufacturer Link; ComponentLink1URL: http://www.ti.com/
footprint 149 (DIP; 28 Leads; Row Spacing 15.24 mm; Pitch 2.54 mm)
3D model 149 (DIP; 28 Leads; Row Spacing 15.24 mm; Pitch 2.54 mm)
pins: 1 VL+ (power), 2 12/~{8} (in), 3 ~{CS} (in), 4 A0 (in), 5 R~{/C} (in), 6 CE (in), 7 V+ (power), 8 REF O (out), 9 AGND (power), 10 REF IN (in), 11 VEE (power), 12 BIPO, 13 10V RNG, 14 20V RNG, 15 DGND (power), 16 D0 (hiz), 17 D1 (hiz), 18 D2 (hiz), 19 D3 (hiz), 20 D4 (hiz), 21 D5 (hiz), 22 D6 (hiz), 23 D7 (hiz), 24 D8 (hiz), 25 D9 (hiz), 26 D10 (hiz), 27 D11 (hiz), 28 STAT (out)

## ADC674AJP
designator U?
Microprocessor-Compatible Analog-to-Digital Converter; Published: 8-Jun-2000; LatestRevisionDate: 06-Jun-2005; LatestRevisionNote: Stylized 3D Model Added.; DatasheetVersion: 1996~1997; PackageVersion: revJ; PackageReference: 215J; Publisher: Altium Limited; PackageDescription: DIP; 28 Leads; Row Spacing 15.24 mm; Pitch 2.54 mm; Code_JEDEC: MS-011-AB; ComponentLink1Description: Manufacturer Link; ComponentLink1URL: http://www.ti.com/
footprint 215J (DIP; 28 Leads; Row Spacing 15.24 mm; Pitch 2.54 mm)
3D model 215J (DIP; 28 Leads; Row Spacing 15.24 mm; Pitch 2.54 mm)
pins: 1 VL+ (power), 2 12/~{8} (in), 3 ~{CS} (in), 4 A0 (in), 5 R~{/C} (in), 6 CE (in), 7 V+ (power), 8 REF O (out), 9 AGND (power), 10 REF IN (in), 11 VEE (power), 12 BIPO, 13 10V RNG, 14 20V RNG, 15 DGND (power), 16 D0 (hiz), 17 D1 (hiz), 18 D2 (hiz), 19 D3 (hiz), 20 D4 (hiz), 21 D5 (hiz), 22 D6 (hiz), 23 D7 (hiz), 24 D8 (hiz), 25 D9 (hiz), 26 D10 (hiz), 27 D11 (hiz), 28 STAT (out)

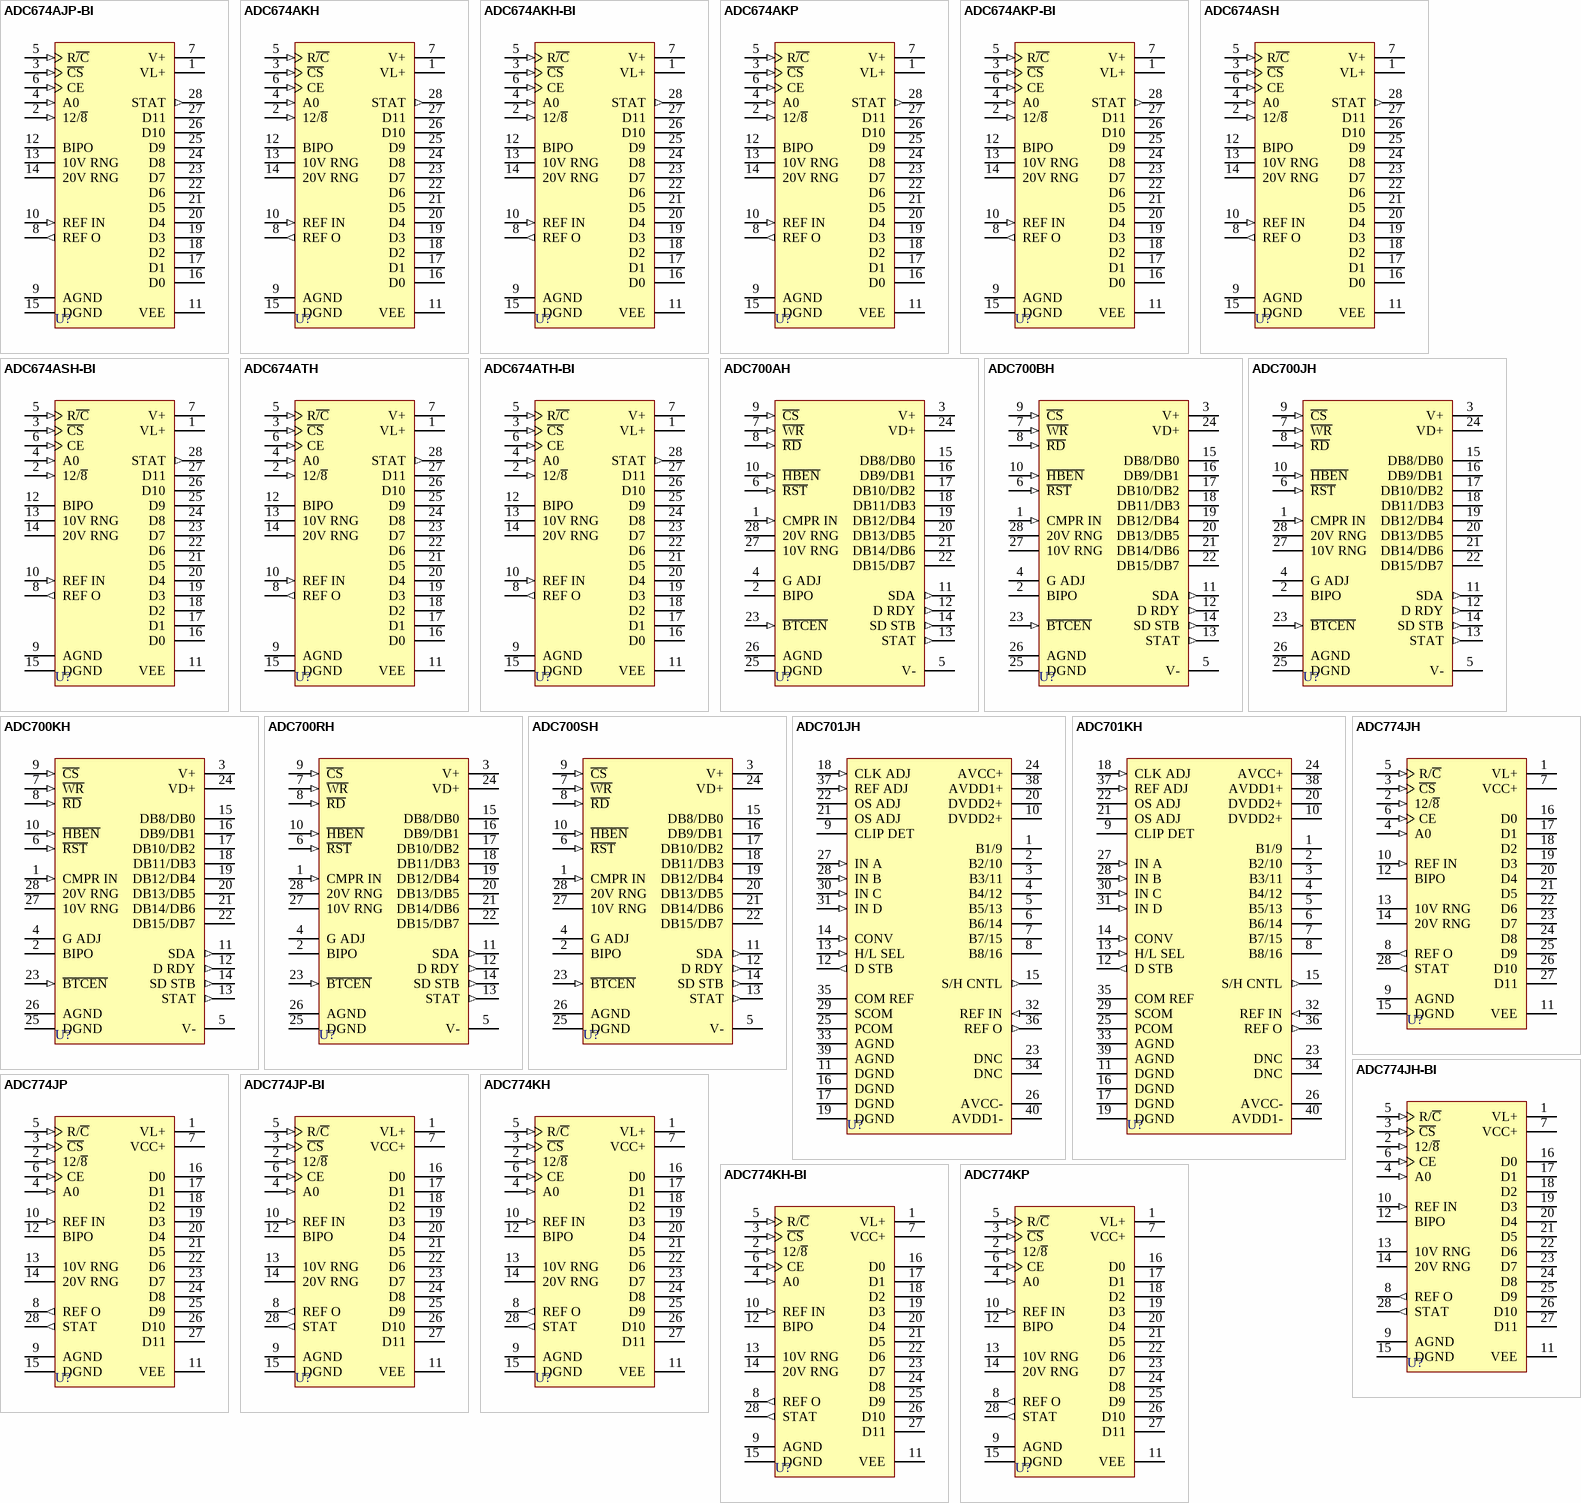
[diagram p2: symbols ADC674AJP-BI to ADC774KP]

## ADC674AJP-BI
designator U?
Microprocessor-Compatible Analog-to-Digital Converter; Published: 8-Jun-2000; LatestRevisionDate: 06-Jun-2005; LatestRevisionNote: Stylized 3D Model Added.; DatasheetVersion: 1996~1997; PackageVersion: revJ; PackageReference: 215J; Publisher: Altium Limited; PackageDescription: DIP; 28 Leads; Row Spacing 15.24 mm; Pitch 2.54 mm; Code_JEDEC: MS-011-AB; ComponentLink1Description: Manufacturer Link; ComponentLink1URL: http://www.ti.com/
footprint 215J (DIP; 28 Leads; Row Spacing 15.24 mm; Pitch 2.54 mm)
3D model 215J (DIP; 28 Leads; Row Spacing 15.24 mm; Pitch 2.54 mm)
pins: 1 VL+ (power), 2 12/~{8} (in), 3 ~{CS} (in), 4 A0 (in), 5 R~{/C} (in), 6 CE (in), 7 V+ (power), 8 REF O (out), 9 AGND (power), 10 REF IN (in), 11 VEE (power), 12 BIPO, 13 10V RNG, 14 20V RNG, 15 DGND (power), 16 D0 (hiz), 17 D1 (hiz), 18 D2 (hiz), 19 D3 (hiz), 20 D4 (hiz), 21 D5 (hiz), 22 D6 (hiz), 23 D7 (hiz), 24 D8 (hiz), 25 D9 (hiz), 26 D10 (hiz), 27 D11 (hiz), 28 STAT (out)

## ADC674AKH
designator U?
Microprocessor-Compatible Analog-to-Digital Converter; Published: 8-Jun-2000; LatestRevisionDate: 06-Jun-2005; LatestRevisionNote: Stylized 3D Model Added.; DatasheetVersion: 1996~1997; PackageVersion: 1994; PackageReference: 149; Publisher: Altium Limited; PackageDescription: DIP; 28 Leads; Row Spacing 15.24 mm; Pitch 2.54 mm; ComponentLink1Description: Manufacturer Link; ComponentLink1URL: http://www.ti.com/
footprint 149 (DIP; 28 Leads; Row Spacing 15.24 mm; Pitch 2.54 mm)
3D model 149 (DIP; 28 Leads; Row Spacing 15.24 mm; Pitch 2.54 mm)
pins: 1 VL+ (power), 2 12/~{8} (in), 3 ~{CS} (in), 4 A0 (in), 5 R~{/C} (in), 6 CE (in), 7 V+ (power), 8 REF O (out), 9 AGND (power), 10 REF IN (in), 11 VEE (power), 12 BIPO, 13 10V RNG, 14 20V RNG, 15 DGND (power), 16 D0 (hiz), 17 D1 (hiz), 18 D2 (hiz), 19 D3 (hiz), 20 D4 (hiz), 21 D5 (hiz), 22 D6 (hiz), 23 D7 (hiz), 24 D8 (hiz), 25 D9 (hiz), 26 D10 (hiz), 27 D11 (hiz), 28 STAT (out)

## ADC674AKH-BI
designator U?
Microprocessor-Compatible Analog-to-Digital Converter; Published: 8-Jun-2000; LatestRevisionDate: 06-Jun-2005; LatestRevisionNote: Stylized 3D Model Added.; DatasheetVersion: 1996~1997; PackageVersion: 1994; PackageReference: 149; Publisher: Altium Limited; PackageDescription: DIP; 28 Leads; Row Spacing 15.24 mm; Pitch 2.54 mm; ComponentLink1Description: Manufacturer Link; ComponentLink1URL: http://www.ti.com/
footprint 149 (DIP; 28 Leads; Row Spacing 15.24 mm; Pitch 2.54 mm)
3D model 149 (DIP; 28 Leads; Row Spacing 15.24 mm; Pitch 2.54 mm)
pins: 1 VL+ (power), 2 12/~{8} (in), 3 ~{CS} (in), 4 A0 (in), 5 R~{/C} (in), 6 CE (in), 7 V+ (power), 8 REF O (out), 9 AGND (power), 10 REF IN (in), 11 VEE (power), 12 BIPO, 13 10V RNG, 14 20V RNG, 15 DGND (power), 16 D0 (hiz), 17 D1 (hiz), 18 D2 (hiz), 19 D3 (hiz), 20 D4 (hiz), 21 D5 (hiz), 22 D6 (hiz), 23 D7 (hiz), 24 D8 (hiz), 25 D9 (hiz), 26 D10 (hiz), 27 D11 (hiz), 28 STAT (out)

## ADC674AKP
designator U?
Microprocessor-Compatible Analog-to-Digital Converter; Published: 8-Jun-2000; LatestRevisionDate: 06-Jun-2005; LatestRevisionNote: Stylized 3D Model Added.; DatasheetVersion: 1996~1997; PackageVersion: revJ; PackageReference: 215J; Publisher: Altium Limited; PackageDescription: DIP; 28 Leads; Row Spacing 15.24 mm; Pitch 2.54 mm; Code_JEDEC: MS-011-AB; ComponentLink1Description: Manufacturer Link; ComponentLink1URL: http://www.ti.com/
footprint 215J (DIP; 28 Leads; Row Spacing 15.24 mm; Pitch 2.54 mm)
3D model 215J (DIP; 28 Leads; Row Spacing 15.24 mm; Pitch 2.54 mm)
pins: 1 VL+ (power), 2 12/~{8} (in), 3 ~{CS} (in), 4 A0 (in), 5 R~{/C} (in), 6 CE (in), 7 V+ (power), 8 REF O (out), 9 AGND (power), 10 REF IN (in), 11 VEE (power), 12 BIPO, 13 10V RNG, 14 20V RNG, 15 DGND (power), 16 D0 (hiz), 17 D1 (hiz), 18 D2 (hiz), 19 D3 (hiz), 20 D4 (hiz), 21 D5 (hiz), 22 D6 (hiz), 23 D7 (hiz), 24 D8 (hiz), 25 D9 (hiz), 26 D10 (hiz), 27 D11 (hiz), 28 STAT (out)

## ADC674AKP-BI
designator U?
Microprocessor-Compatible Analog-to-Digital Converter; Published: 8-Jun-2000; LatestRevisionDate: 06-Jun-2005; LatestRevisionNote: Stylized 3D Model Added.; DatasheetVersion: 1996~1997; PackageVersion: revJ; PackageReference: 215J; Publisher: Altium Limited; PackageDescription: DIP; 28 Leads; Row Spacing 15.24 mm; Pitch 2.54 mm; Code_JEDEC: MS-011-AB; ComponentLink1Description: Manufacturer Link; ComponentLink1URL: http://www.ti.com/
footprint 215J (DIP; 28 Leads; Row Spacing 15.24 mm; Pitch 2.54 mm)
3D model 215J (DIP; 28 Leads; Row Spacing 15.24 mm; Pitch 2.54 mm)
pins: 1 VL+ (power), 2 12/~{8} (in), 3 ~{CS} (in), 4 A0 (in), 5 R~{/C} (in), 6 CE (in), 7 V+ (power), 8 REF O (out), 9 AGND (power), 10 REF IN (in), 11 VEE (power), 12 BIPO, 13 10V RNG, 14 20V RNG, 15 DGND (power), 16 D0 (hiz), 17 D1 (hiz), 18 D2 (hiz), 19 D3 (hiz), 20 D4 (hiz), 21 D5 (hiz), 22 D6 (hiz), 23 D7 (hiz), 24 D8 (hiz), 25 D9 (hiz), 26 D10 (hiz), 27 D11 (hiz), 28 STAT (out)

## ADC674ASH
designator U?
Microprocessor-Compatible Analog-to-Digital Converter; Published: 8-Jun-2000; LatestRevisionDate: 06-Jun-2005; LatestRevisionNote: Stylized 3D Model Added.; DatasheetVersion: 1996~1997; PackageVersion: 1994; PackageReference: 149; Publisher: Altium Limited; PackageDescription: DIP; 28 Leads; Row Spacing 15.24 mm; Pitch 2.54 mm; ComponentLink1Description: Manufacturer Link; ComponentLink1URL: http://www.ti.com/
footprint 149 (DIP; 28 Leads; Row Spacing 15.24 mm; Pitch 2.54 mm)
3D model 149 (DIP; 28 Leads; Row Spacing 15.24 mm; Pitch 2.54 mm)
pins: 1 VL+ (power), 2 12/~{8} (in), 3 ~{CS} (in), 4 A0 (in), 5 R~{/C} (in), 6 CE (in), 7 V+ (power), 8 REF O (out), 9 AGND (power), 10 REF IN (in), 11 VEE (power), 12 BIPO, 13 10V RNG, 14 20V RNG, 15 DGND (power), 16 D0 (hiz), 17 D1 (hiz), 18 D2 (hiz), 19 D3 (hiz), 20 D4 (hiz), 21 D5 (hiz), 22 D6 (hiz), 23 D7 (hiz), 24 D8 (hiz), 25 D9 (hiz), 26 D10 (hiz), 27 D11 (hiz), 28 STAT (out)